# Altium schematic symbol library 3.3V_buck.SchLib: 1 symbol
Pins are listed as number, name and electrical type; pins without a type are passive.

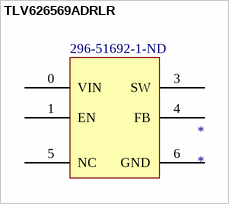
[diagram p0: symbol TLV626569ADRLR]

## TLV626569ADRLR
designator *  Supplier Part Number 1: 296-51692-1-ND
Manufacturer: Texas Instruments; Manufacturer Part Number: TLV62569ADRLR; Supplier 1: Digi-Key; Stock 1: 1873; Pricing 1: 1 = 1.32000, 10 = 1.17600, 100 = 0.91680, 500 = 0.75736, 1000 = 0.59792 (USD)
footprint *SOT50P160X60-6N
pins: 0 VIN, 1 EN, 3 SW, 4 FB, 5 NC, 6 GND